# Altium footprint library MAX348XE.PcbLib: 1 footprints
Each footprint in its own frame and in the unit in brackets; x right, y up, seen from the top. Pads: shape width x height; smd on the part's side, far side on the other; paste and mask are expansions set on the pad; w line width, h text height; cw(c..) or ccw(c..) is an arc to the next point about the centre after c.
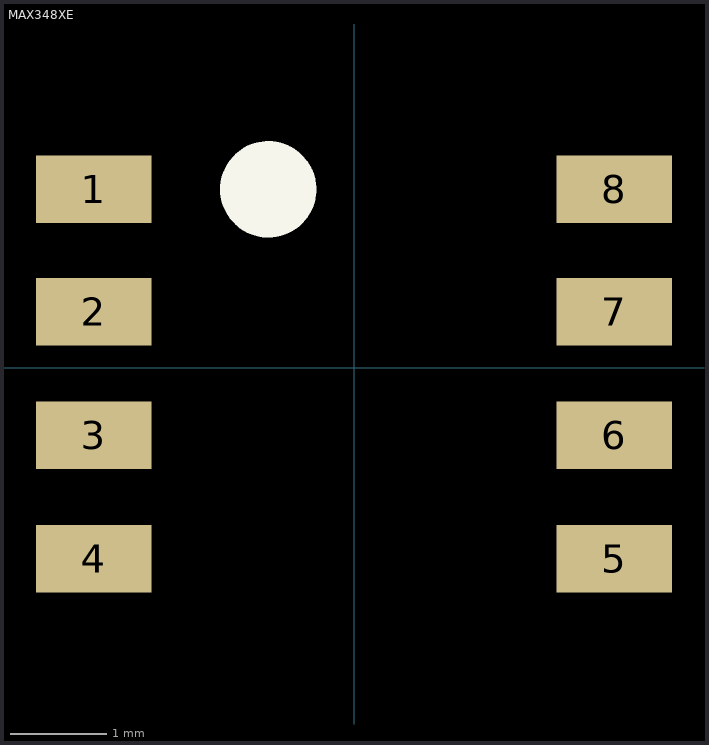
[diagram p0: the footprint, top view; thin cyan lines are the x and y axes]

## MAX348XE [mm]
pads (8):
  rect 1.2x0.7 smd: 1(-2.7,1.85) 2(-2.7,0.58) 3(-2.7,-0.7) 4(-2.7,-1.98) 5(2.7,-1.98) 6(2.7,-0.7) 7(2.7,0.58) 8(2.7,1.85)
Top Overlay:
  circle w0.6: c-0.889,1.85 r0.2
3D body: height 1.45, standoff 0, extent -2.889,-2.489 2.889,2.413